# EAGLE library part STM32F103C8T6 (library Board-Ibnu)
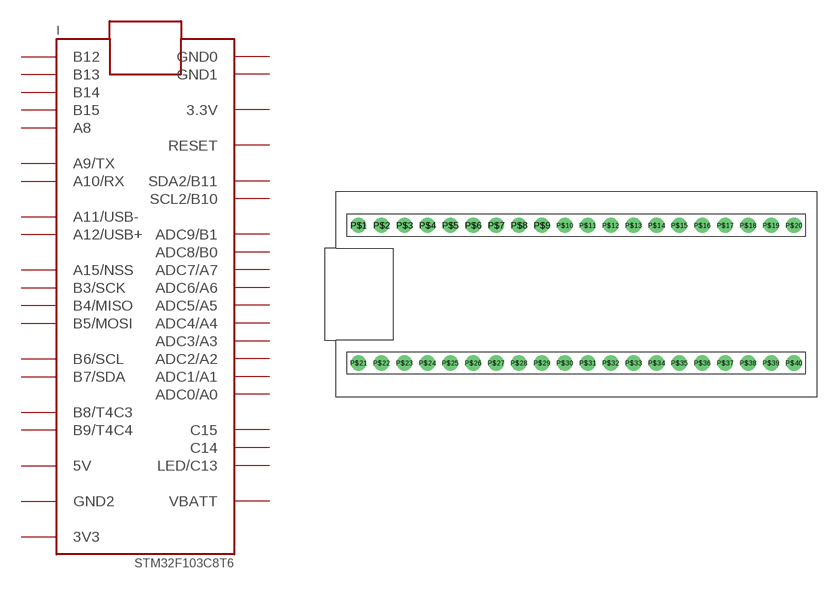
[diagram p0: symbol with the pads of STM32F103C8T6; footprint STM32F103C8T6]

Designator prefix I

## STM32F103C8T6  [STM32F103C8T6]
P$1  GND0
P$2  GND1
P$3  3.3V
P$4  RESET
P$5  SDA2/B11
P$6  SCL2/B10
P$7  ADC9/B1
P$8  ADC8/B0
P$9  ADC7/A7
P$10  ADC6/A6
P$11  ADC5/A5
P$12  ADC4/A4
P$13  ADC3/A3
P$14  ADC2/A2
P$15  ADC1/A1
P$16  ADC0/A0
P$17  C15
P$18  C14
P$19  LED/C13
P$20  VBATT
P$21  B12
P$22  B13
P$23  B14
P$24  B15
P$25  A8
P$26  A9/TX
P$27  A10/RX
P$28  A11/USB-
P$29  A12/USB+
P$30  A15/NSS
P$31  B3/SCK
P$32  B4/MISO
P$33  B5/MOSI
P$34  B6/SCL
P$35  B7/SDA
P$36  B8/T4C3
P$37  B9/T4C4
P$38  5V
P$39  GND2
P$40  3V3

## Footprint STM32F103C8T6 (pad centres in mm)
drill 1 pad 1.676: P$1 -24.13,7.62; P$2 -21.59,7.62; P$3 -19.05,7.62; P$4 -16.51,7.62; P$5 -13.97,7.62; P$6 -11.43,7.62; P$7 -8.89,7.62; P$8 -6.35,7.62; P$9 -3.81,7.62; P$10 -1.27,7.62; P$11 1.27,7.62; P$12 3.81,7.62; P$13 6.35,7.62; P$14 8.89,7.62; P$15 11.43,7.62; P$16 13.97,7.62; P$17 16.51,7.62; P$18 19.05,7.62; P$19 21.59,7.62; P$20 24.13,7.62; P$21 -24.13,-7.62; P$22 -21.59,-7.62; P$23 -19.05,-7.62; P$24 -16.51,-7.62; P$25 -13.97,-7.62; P$26 -11.43,-7.62; P$27 -8.89,-7.62; P$28 -6.35,-7.62; P$29 -3.81,-7.62; P$30 -1.27,-7.62; P$31 1.27,-7.62; P$32 3.81,-7.62; P$33 6.35,-7.62; P$34 8.89,-7.62; P$35 11.43,-7.62; P$36 13.97,-7.62; P$37 16.51,-7.62; P$38 19.05,-7.62; P$39 21.59,-7.62; P$40 24.13,-7.62